# Altium footprint library PcbLib1.PcbLib: 13 footprints
Each footprint in its own frame and in the unit in brackets; x right, y up, seen from the top. Pads: shape width x height; smd on the part's side, far side on the other; paste and mask are expansions set on the pad; w line width, h text height; cw(c..) or ccw(c..) is an arc to the next point about the centre after c.
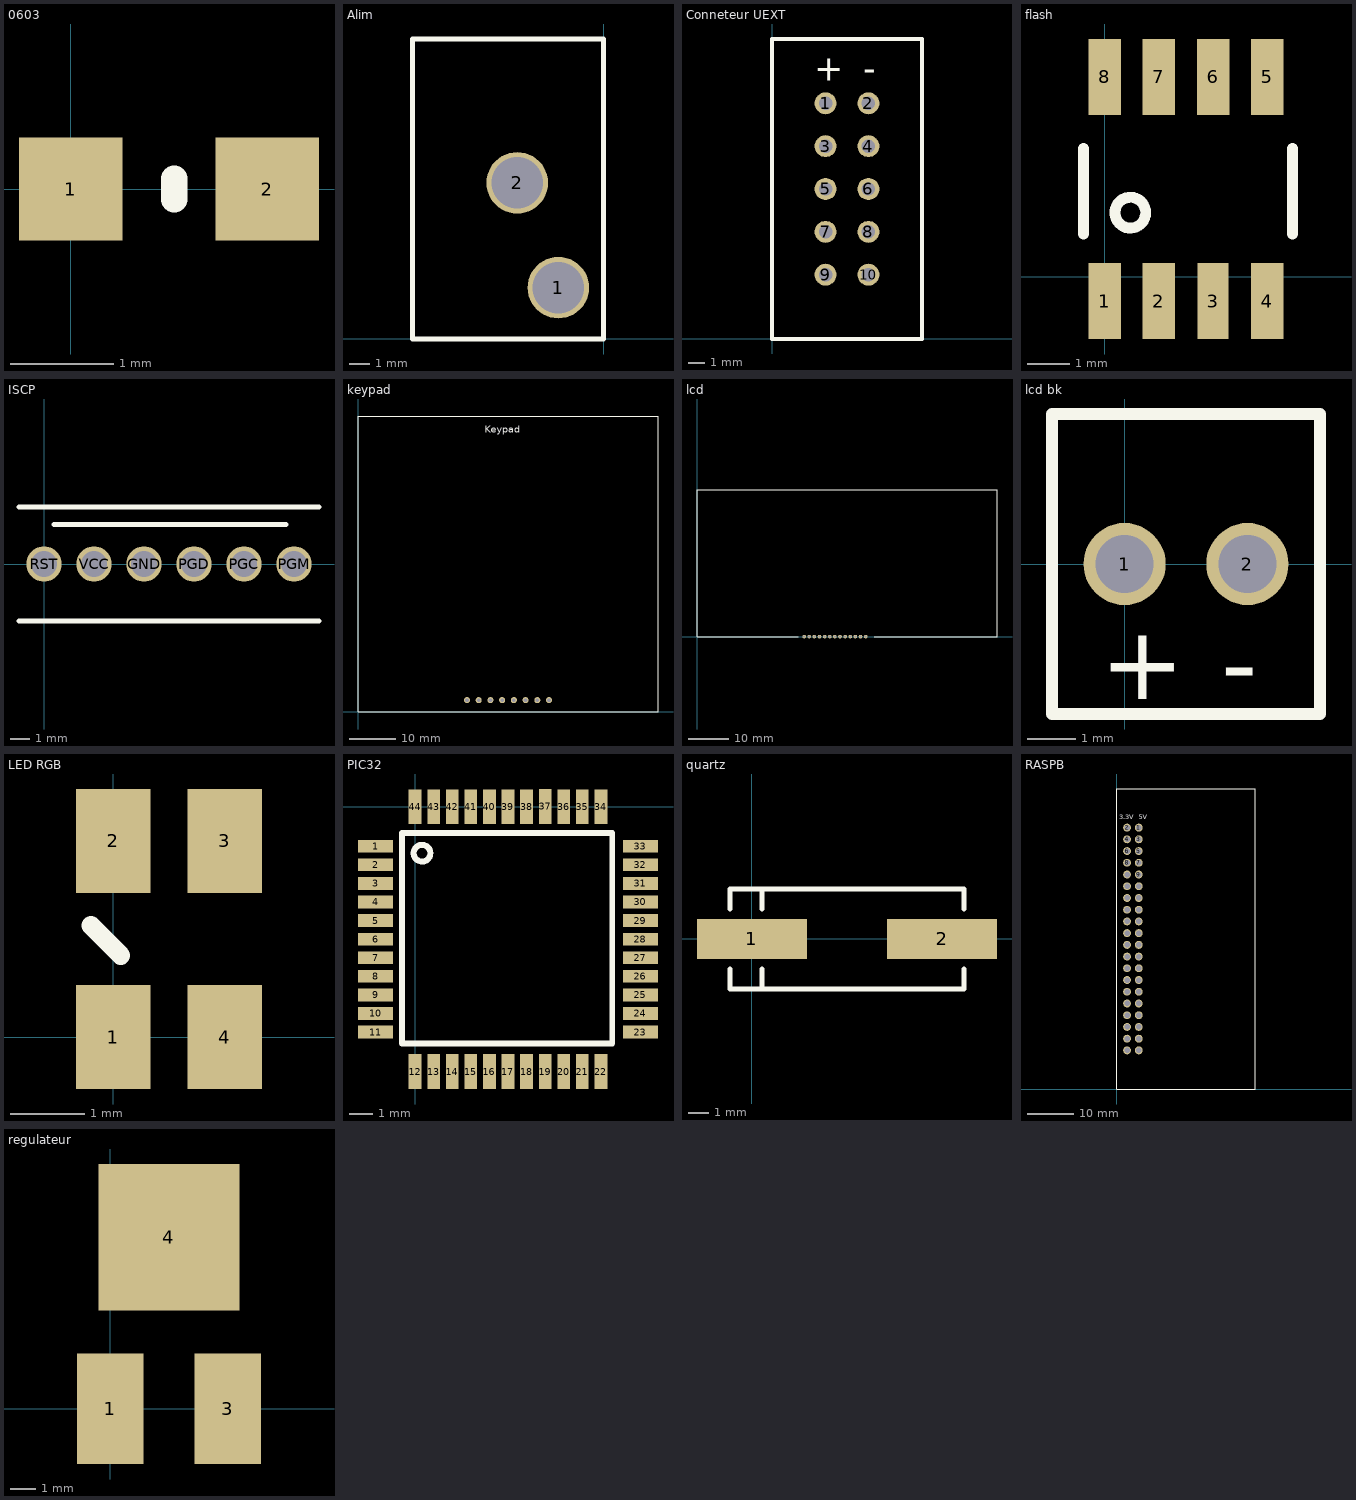
[diagram p0: the footprints below, top view; thin cyan lines are the x and y axes]

## 0603 [mm]
pads (2):
  rect 1x1 smd: 1(0,0) 2(1.9,0)
Top Overlay:
  lines w0.254: 1,-0.1 1,0.1

## Alim [mm]
pads (2):
  round 3 hole 2.5: 1(-2.2,2.5) 2(-4.2,7.6)
Top Overlay:
  lines w0.254: -9.3,0 -9.3,14.6 0,14.6 0,0 -9.3,0

## Conneteur UEXT [mm]
pads (10):
  round 1.3 hole 0.8: 1(3.175,13.97) 2(5.715,13.97) 3(3.175,11.43) 4(5.715,11.43) 5(3.175,8.89) 6(5.715,8.89) 7(3.175,6.35) 8(5.715,6.35) 9(3.175,3.81) 10(5.715,3.81)
Top Overlay:
  lines w0.254: 0,0 8.89,0 8.89,17.78 0,17.78 0,0
  text "+" at 2.5,15.3 h1.52
  text "-" at 5.4,15.3 h1.52

## flash [mm]
pads (8):
  rect 0.76x1.78 smd: 1(0,-0.572) 2(1.27,-0.572) 4(3.81,-0.572) 5(3.81,4.68) 6(2.54,4.68) 7(1.27,4.68) 8(0,4.68)
  rect 0.72x1.78 smd: 3(2.54,-0.572)
Top Overlay:
  circle w0.254: c0.6,1.5 r0.361
  lines w0.254: -0.5,1 -0.5,3 ; 4.4,1 4.4,3

## ISCP [mm]
pads (6):
  round 1.8 hole 1.3: GND(5.08,0) PGC(10.16,0) PGD(7.62,0) PGM(12.7,0) RST(0,0) VCC(2.54,0)
Top Overlay:
  lines w0.254: -1.27,-2.9 13.97,-2.9 ; -1.27,2.9 13.97,2.9 ; 0.5,2 12.3,2

## keypad [mm]
pads (8):
  round 1.3 hole 0.8: 1(23.61,2.5) 2(26.15,2.5) 3(28.69,2.5) 4(31.23,2.5) 5(33.77,2.5) 6(36.31,2.5) 7(38.85,2.5) 8(41.39,2.5)
Top Overlay:
  lines w0.254: 0,0 0,64 65,64 65,0 0,0
  text "Keypad" at 27.5,60.4 h1.52

## lcd [mm]
pads (13):
  round 0.9 hole 0.5: 1(26.53,0) 2(27.8,0) 3(29.07,0) 4(30.34,0) 5(31.61,0) 6(32.88,0) 7(34.15,0) 8(35.42,0) 9(36.69,0) 10(37.96,0) 11(39.23,0) 12(40.5,0) 13(41.77,0)
Top Overlay:
  lines w0.254: 25.03,0 0,0 0,36.4 74.3,36.4 74.3,0 43.9,0

## lcd bk [mm]
pads (2):
  round 1.7 hole 1.2: 1(0,0) 2(2.54,0)
Top Overlay:
  lines w0.254: -1.5,-3.1 4.04,-3.1 4.04,3.1 -1.5,3.1 -1.5,-3.1
  text "-" at 2,-2.8 h1.52
  text "+" at -0.5,-2.8 h1.52

## LED RGB [mm]
pads (4):
  rect 1x1.4 smd: 1(0,0) 2(0,2.64) 3(1.5,2.64) 4(1.5,0)
Top Overlay:
  lines w0.254: -0.3,1.5 0.1,1.1

## PIC32 [mm]
pads (44):
  rect 1.5x0.55 smd: 1(-1.7,-1.7) 2(-1.7,-2.5) 3(-1.7,-3.3) 4(-1.7,-4.1) 5(-1.7,-4.9) 6(-1.7,-5.7) 7(-1.7,-6.5) 8(-1.7,-7.3) 9(-1.7,-8.1) 10(-1.7,-8.9) 11(-1.7,-9.7) 23(9.7,-9.7) 24(9.7,-8.9) 25(9.7,-8.1) 26(9.7,-7.3) 27(9.7,-6.5) 28(9.7,-5.7) 29(9.7,-4.9) 30(9.7,-4.1) 31(9.7,-3.3) 32(9.7,-2.5) 33(9.7,-1.7)
  rect 0.55x1.5 smd: 12(0,-11.4) 13(0.8,-11.4) 14(1.6,-11.4) 15(2.4,-11.4) 16(3.2,-11.4) 17(4,-11.4) 18(4.8,-11.4) 19(5.6,-11.4) 20(6.4,-11.4) 21(7.2,-11.4) 22(8,-11.4) 34(8,0) 35(7.2,0) 36(6.4,0) 37(5.6,0.013) 38(4.8,0) 39(4,0) 40(3.2,0) 41(2.4,0) 42(1.6,0) 43(0.8,0) 44(0,0)
Top Overlay:
  circle w0.254: c0.3,-2 r0.361
  lines w0.254: -0.563,-10.187 8.487,-10.187 8.487,-1.137 -0.563,-1.137 -0.563,-10.187

## quartz [mm]
pads (2):
  rect 5.5x2 smd: 1(0,0) 2(9.5,0)
Top Overlay:
  lines w0.254: -1.1,-1.5 -1.1,-2.5 10.6,-2.5 10.6,-1.5 ; -1.1,1.5 -1.1,2.5 10.6,2.5 10.6,1.5 ; 0.5,-2.5 0.5,-1.5 ; 0.5,1.5 0.5,2.5

## RASPB [mm]
pads (40):
  round 1.7 hole 1.2: 1(4.77,56.63) 2(2.23,56.63) 3(4.77,54.09) 4(2.23,54.09) 5(4.77,51.55) 6(2.23,51.55) 7(4.77,49.01) 8(2.23,49.01) 9(4.77,46.47) 10(2.23,46.47) 11(4.77,43.93) 12(2.23,43.93) 13(4.77,41.39) 14(2.23,41.39) 15(4.77,38.85) 16(2.23,38.85) 17(4.77,36.31) 18(2.23,36.31) 19(4.77,33.77) 20(2.23,33.77) 21(4.77,31.23) 22(2.23,31.23) 23(4.77,28.69) 24(2.23,28.69) 25(4.77,26.15) 26(2.23,26.15) 27(4.77,23.61) 28(2.23,23.61) 29(4.77,21.07) 30(2.23,21.07) 31(4.77,18.53) 32(2.23,18.53) 33(4.77,15.99) 34(2.23,15.99) 35(4.77,13.45) 36(2.23,13.45) 37(4.77,10.91) 38(2.23,10.91) 39(4.77,8.37) 40(2.23,8.37)
Top Overlay:
  lines w0.254: 0,0 0,65 30,65 30,0 0,0
  text "5V" at 4.8,58.4 h1
  text "3.3V" at 0.5,58.4 h1

## regulateur [mm]
pads (3):
  rect 2.6x4.3 smd: 1(0,0) 3(4.57,0)
  rect 5.5x5.7 smd: 4(2.285,6.665)